# EAGLE library part CAT24C32WI-GT3 (library Common-Parts-Library-Eagle)
CAT24C32 Series 32 Kb (4K X 8) 1.8 V - 5.5 V I2C CMOS Serial EEPROM - SOIC-8
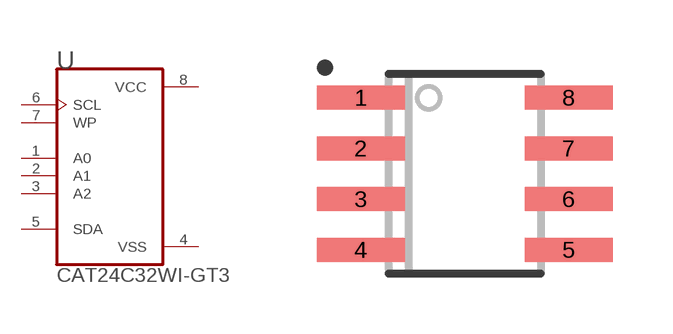
[diagram p73: symbol with the pads of CAT24C32WI-GT3_SOIC127P600X175-8N; footprint CAT24C32WI-GT3_SOIC127P600X175-8N]

Designator prefix U

## CAT24C32WI-GT3 (MANUFACTURER: ON Semiconductor)  [CAT24C32WI-GT3_SOIC127P600X175-8N]
1  A0  in
2  A1  in
3  A2  in
4  VSS  pas
5  SDA
6  SCL  in
7  WP  in
8  VCC  pwr

## Footprint CAT24C32WI-GT3_SOIC127P600X175-8N (pad centres in mm)
smd 2.2 x 0.6: 1 -2.6,1.905; 2 -2.6,0.635; 3 -2.6,-0.635; 4 -2.6,-1.905; 5 2.6,-1.905; 6 2.6,-0.635; 7 2.6,0.635; 8 2.6,1.905